# Altium footprint library 接插件.PCBLIB: 113 footprints (part 4 of 8)
Each footprint in its own frame and in the unit in brackets; x right, y up, seen from the top. Pads: shape width x height; smd on the part's side, far side on the other; paste and mask are expansions set on the pad; w line width, h text height; cw(c..) or ccw(c..) is an arc to the next point about the centre after c.
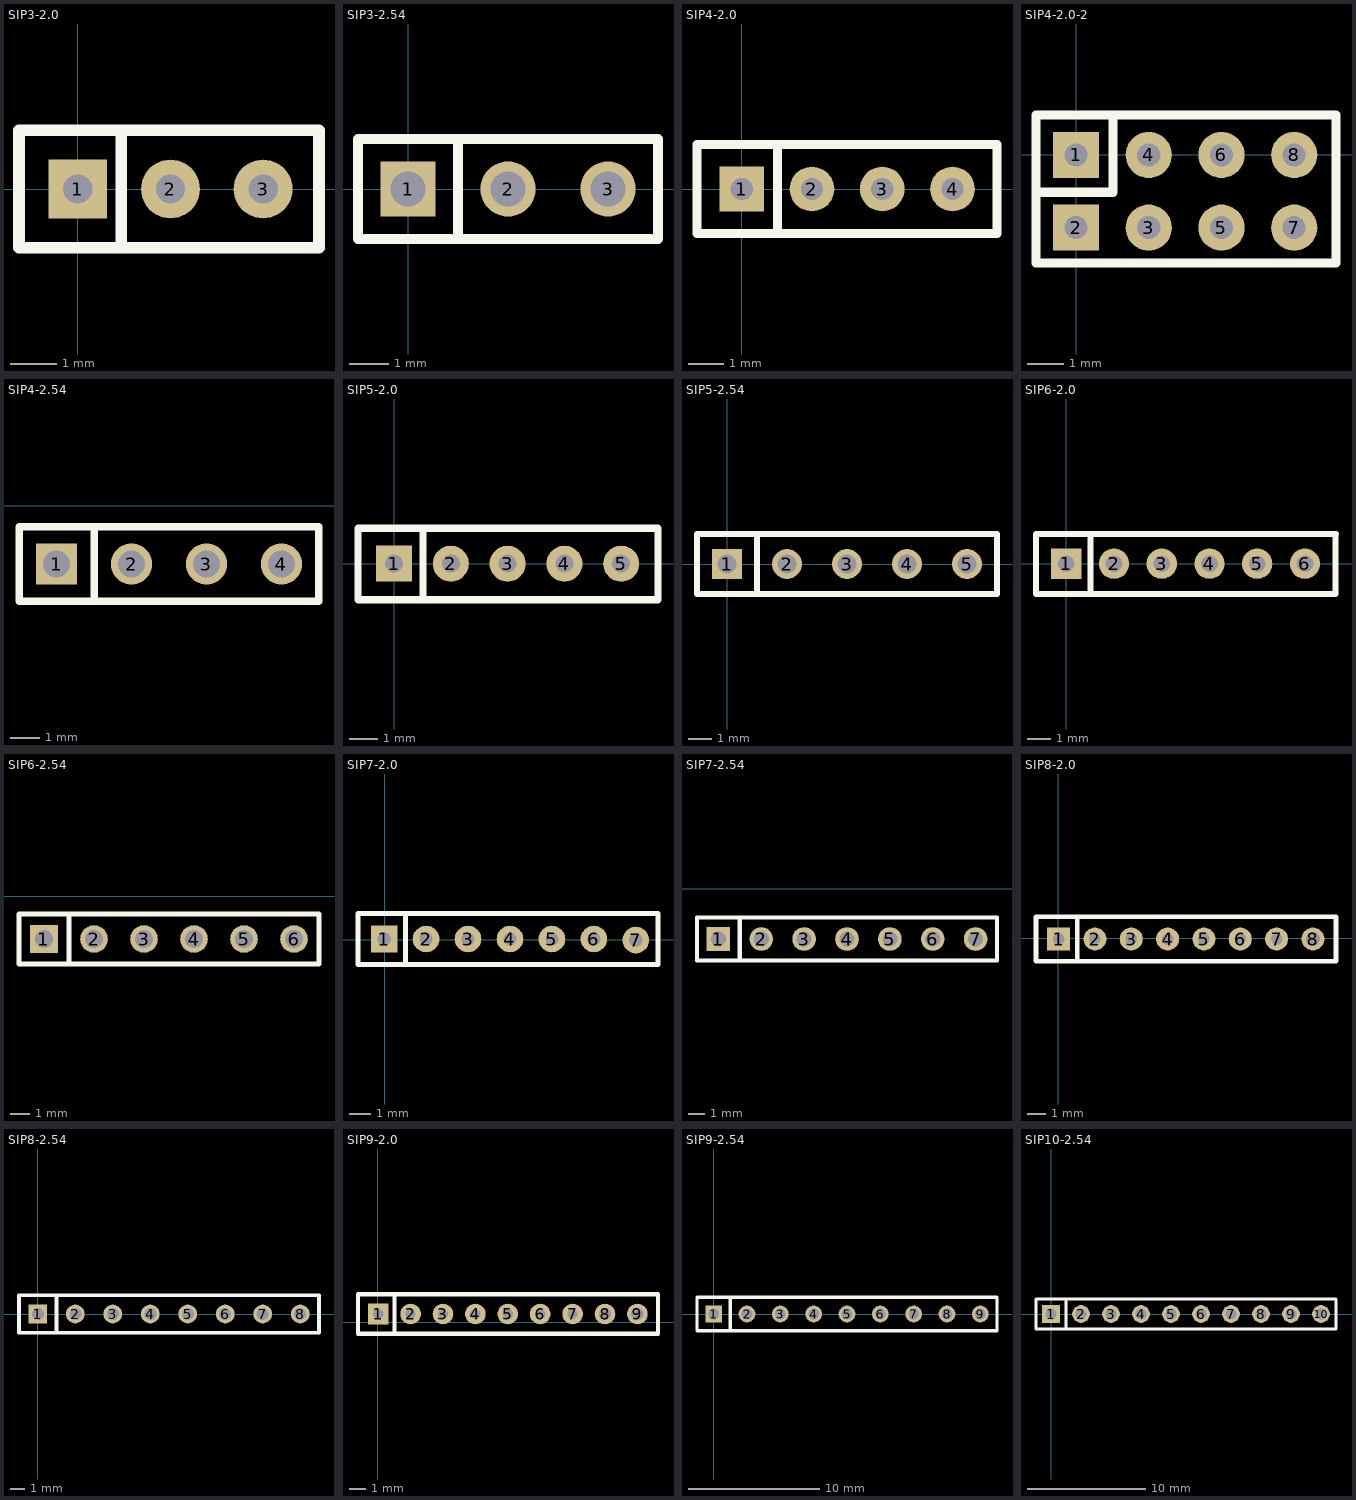
[diagram p3: the footprints below, top view; thin cyan lines are the x and y axes]

## SIP3-2.0 [mm]
pads (3):
  rect 1.27x1.27 hole 0.635: 1(0,0)
  round 1.27 hole 0.635: 2(2,0) 3(4,0)
TopOverlay:
  lines w0.254: 0.94,1.27 0.94,-1.245 0.965,-1.27 ; -1.27,-1.27 5.207,-1.27 5.207,1.27 -1.27,1.27 -1.27,-1.27

## SIP3-2.54 [mm]
pads (3):
  rect 1.4x1.4 hole 0.9: 1(0,0)
  round 1.4 hole 0.9: 2(2.54,0) 3(5.08,0)
TopOverlay:
  lines w0.254: 1.27,-1.27 1.27,1.27 ; -1.27,-1.27 6.35,-1.27 6.35,1.27 -1.27,1.27 -1.27,-1.27

## SIP4-2.0 [mm]
pads (4):
  rect 1.27x1.27 hole 0.635: 1(0,0)
  round 1.27 hole 0.635: 2(2,0) 3(4,0) 4(6,0)
TopOverlay:
  lines w0.254: 1.016,-1.27 1.016,1.27 ; -1.27,-1.27 -1.27,1.27 7.264,1.27 7.264,-1.27 -1.27,-1.27

## SIP4-2.0-2 [mm]
pads (8):
  rect 1.27x1.27 hole 0.635: 1(0,0) 2(0,-2)
  round 1.27 hole 0.635: 3(2,-2) 4(2,0) 5(4,-2) 6(4,0) 7(6,-2) 8(6,0)
TopOverlay:
  lines w0.254: -1.1,-0.975 -1.1,-2.975 7.15,-2.975 7.15,1.1 -1.1,1.1 -1.1,-1.025 1.016,-1.025 1.016,1.075

## SIP4-2.54 [mm]
pads (4):
  rect 1.4x1.4 hole 0.9: 1(2.007,-1.981)
  round 1.4 hole 0.9: 2(4.547,-1.981) 3(7.087,-1.981) 4(9.627,-1.981)
TopOverlay:
  lines w0.254: 3.277,-3.251 3.277,-0.711 ; 0.737,-3.251 10.897,-3.251 10.897,-0.711 0.737,-0.711 0.737,-3.251

## SIP5-2.0 [mm]
pads (5):
  rect 1.27x1.27 hole 0.635: 1(0,0)
  round 1.27 hole 0.635: 2(2,0) 3(4,0) 4(6,0) 5(8,0)
TopOverlay:
  lines w0.254: 1.016,-1.27 1.016,1.194 ; -1.27,-1.27 -1.27,1.245 9.296,1.245 9.296,-1.27 -1.27,-1.27

## SIP5-2.54 [mil]
pads (5):
  rect 50x50 hole 32: 1(0,0)
  round 50 hole 32: 2(100,0) 3(200,0) 4(300,0) 5(400,0)
TopOverlay:
  lines w10: 50,-50 50,50 ; -50,-50 -50,50 450,50 450,-50 -50,-50

## SIP6-2.0 [mm]
pads (6):
  rect 1.27x1.27 hole 0.7: 1(0,0)
  round 1.27 hole 0.7: 2(2,0) 3(4,0) 4(6,0) 5(8,0) 6(10,0)
TopOverlay:
  lines w0.254: 1.016,-1.245 1.016,1.245 ; -1.27,-1.27 11.278,-1.27 11.278,1.219 11.303,1.245 -1.27,1.245 -1.27,-1.27

## SIP6-2.54 [mm]
pads (6):
  rect 1.4x1.4 hole 0.9: 1(2.28,-2.183)
  round 1.4 hole 0.9: 2(4.82,-2.183) 3(7.36,-2.183) 4(9.9,-2.183) 5(12.44,-2.183) 6(14.98,-2.183)
TopOverlay:
  lines w0.254: 3.55,-3.453 3.55,-0.913 ; 1.01,-3.453 16.25,-3.453 16.25,-0.913 1.01,-0.913 1.01,-3.453

## SIP7-2.0 [mil]
pads (7):
  rect 50x50 hole 25: 1(-1,1)
  round 50 hole 25: 2(77.74,1) 3(156.48,1) 4(235.22,1) 5(313.96,1) 6(392.7,1) 7(471.44,-1)
TopOverlay:
  lines w10: 39,-47 39,49 ; 513,48 513,-47 -50,-47 -50,49 513,49

## SIP7-2.54 [mm]
pads (7):
  rect 1.4x1.4 hole 0.9: 1(3.048,-2.972)
  round 1.4 hole 0.9: 2(5.588,-2.972) 3(8.128,-2.972) 4(10.668,-2.972) 5(13.208,-2.972) 6(15.748,-2.972) 7(18.288,-2.972)
TopOverlay:
  lines w0.254: 4.318,-4.242 4.318,-1.702 ; 1.778,-4.242 1.778,-1.702 19.558,-1.702 19.558,-4.242 1.778,-4.242

## SIP8-2.0 [mil]
pads (8):
  rect 50x50 hole 25: 1(1,-2)
  round 50 hole 25: 2(79.74,-2) 3(158.48,-2) 4(237.22,-2) 5(315.96,-2) 6(394.7,-2) 7(473.44,-2)
  round 50 hole 30: 8(552.18,-2)
TopOverlay:
  lines w10: 41,-50 41,46 ; 602.18,45 602.18,-50 -48,-50 -48,46 602.18,46

## SIP8-2.54 [mil]
pads (8):
  rect 50x50 hole 32: 1(0,0)
  round 50 hole 32: 2(100,0) 3(200,0) 4(300,0) 5(400,0) 6(500,0) 7(600,0) 8(700,0)
TopOverlay:
  lines w10: 50,-50 50,50 ; -50,-50 -50,50 750,50 750,-50 -50,-50

## SIP9-2.0 [mil]
pads (9):
  rect 50x50 hole 25: 1(1,20)
  round 50 hole 25: 2(79.74,20) 3(158.48,20) 4(237.22,20) 5(315.96,20) 6(394.7,20) 7(473.44,20)
  round 50 hole 30: 8(552.18,20) 9(630.92,20)
TopOverlay:
  lines w10: 41,-28 41,68 ; 680.92,67 680.92,-28 -48,-28 -48,68 680.95,68

## SIP9-2.54 [mil]
pads (9):
  rect 50x50 hole 32: 1(0,0)
  round 50 hole 32: 2(100,0) 3(200,0) 4(300,0) 5(400,0) 6(500,0) 7(600,0) 8(700,0) 9(800,0)
TopOverlay:
  lines w10: 50,-50 50,50 ; -50,-50 850,-50 850,50 -50,50 -50,-50

## SIP10-2.54 [mm]
pads (10):
  rect 1.5x1.5 hole 0.9: 1(0,0)
  round 1.5 hole 0.9: 2(2.54,0) 3(5.08,0) 4(7.62,0) 5(10.16,0) 6(12.7,0) 7(15.24,0) 8(17.78,0) 9(20.32,0) 10(22.86,0)
TopOverlay:
  lines w0.254: 1.27,-1.27 1.27,1.27 ; -1.27,-1.27 24.13,-1.27 24.13,1.27 -1.27,1.27 -1.27,-1.27